# EAGLE library part LTC6992 (library AKA_lib)
http://cds.linear.com/docs/en/datasheet/69921234fc.pdf The LTC®6992 is a silicon oscillator with an easy-to-use analog voltage-controlled pulse width modulation (PWM) capability. The LTC6992 is part of the TimerBlox® family of versatile silicon timing devices. A single resistor, RSET, programs the LTC6992’s internal master oscillator frequency. The output frequency is determined by this master oscillator and an internal frequency divider, NDIV, programmable to eight settings from 1 to 16384.
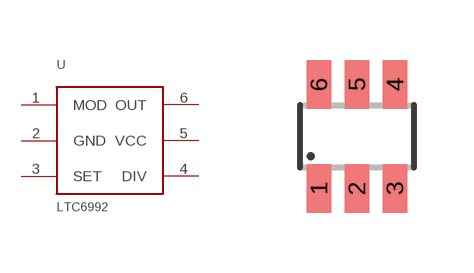
[diagram p18: symbol with the pads of TSOT23-6; footprint TSOT23-6]

Designator prefix U

## LTC6992  [TSOT23-6]
1  MOD
2  GND  pwr
3  SET
4  DIV
5  VCC  pwr
6  OUT  out

## Footprint TSOT23-6 (pad centres in mm)
S6 Package 6-Lead Plastic TSOT-23 Source: http://cds.linear.com/docs/Datasheet/623012fb.pdf
smd 0.62 x 1.22: 1 -0.95,-1.3; 2 0,-1.3; 3 0.95,-1.3; 4 0.95,1.3; 5 0,1.3; 6 -0.95,1.3